# Altium footprint library 1-84952-0 FPC.PcbLib: 1 footprints
Each footprint in its own frame and in the unit in brackets; x right, y up, seen from the top. Pads: shape width x height; smd on the part's side, far side on the other; paste and mask are expansions set on the pad; w line width, h text height; cw(c..) or ccw(c..) is an arc to the next point about the centre after c.
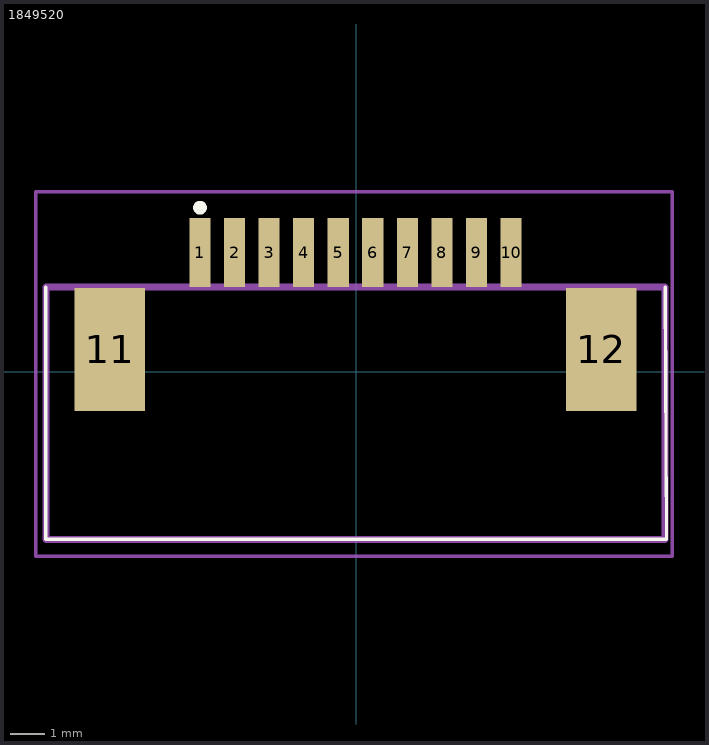
[diagram p0: the footprint, top view; thin cyan lines are the x and y axes]

## 1849520 [mm]
pads (12):
  rect 0.61x2 smd: 1(-4.52,3.45) 2(-3.52,3.45) 3(-2.52,3.45) 4(-1.52,3.45) 5(-0.52,3.45) 6(0.48,3.45) 7(1.48,3.45) 8(2.48,3.45) 9(3.48,3.45) 10(4.48,3.45)
  rect 2.032x3.556 smd: 11(-7.129,0.65) 12(7.089,0.65)
Top Overlay:
  lines w0.1: -8.98,2.45 -8.98,-4.85 8.98,-4.85 8.94,2.45
  lines w0.2: -4.62,4.75 cw(c-4.52,4.75) -4.42,4.75 cw(c-4.52,4.75) -4.62,4.75
Mechanical 13:
  lines w0.2: -8.98,-4.85 8.94,-4.85 8.94,2.45 -8.98,2.45 -8.98,-4.85
Mechanical 15:
  lines w0.1: -9.271,-5.334 9.144,-5.334 9.144,5.207 -9.271,5.207 -9.271,-5.334
3D body "1-84952-0.stp": height 2.56, standoff 0, extent -8.955,-2.96 8.955,3.58